# Altium footprint library arduino.PcbLib: 2 footprints
Each footprint in its own frame and in the unit in brackets; x right, y up, seen from the top. Pads: shape width x height; smd on the part's side, far side on the other; paste and mask are expansions set on the pad; w line width, h text height; cw(c..) or ccw(c..) is an arc to the next point about the centre after c.
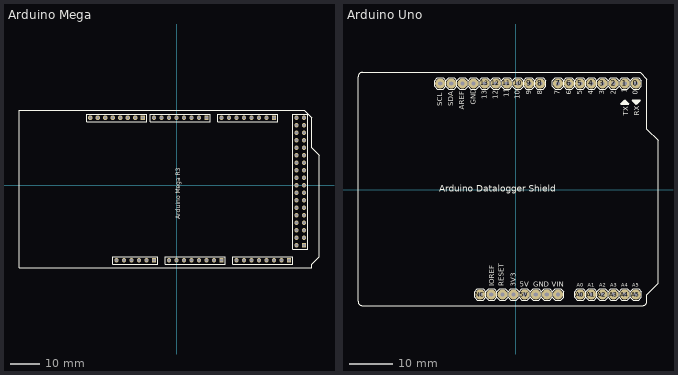
[diagram p0: the footprints below, top view; thin cyan lines are the x and y axes]

## Arduino Mega [mm] "Arduino Mega 2560"
pads (82):
  rect 1.5x1.5 hole 0.9: 0(10.16,22.86) 8(-11.43,22.86) 21(33.02,22.86) 59(-7.62,-25.4) 67(15.24,-25.4) 75(38.1,-25.4) 79(43.18,-20.32)
  round 1.5 hole 0.9: 1(7.62,22.86) 2(5.08,22.86) 3(2.54,22.86) 4(0,22.86) 5(-2.54,22.86) 6(-5.08,22.86) 7(-7.62,22.86) 9(-13.97,22.86) 10(-16.51,22.86) 11(-19.05,22.86) 12(-21.59,22.86) 13(-24.13,22.86) 14(15.24,22.86) 15(17.78,22.86) 16(20.32,22.86) 17(22.86,22.86) 18(25.4,22.86) 19(27.94,22.86) 20(30.48,22.86) 22(40.64,20.32) 23(43.18,20.32) 24(40.64,17.78) 25(43.18,17.78) 26(40.64,15.24) 27(43.18,15.24) 28(40.64,12.7) 29(43.18,12.7) 30(40.64,10.16) 31(43.18,10.16) 32(40.64,7.62) 33(43.18,7.62) 34(40.64,5.08) 35(43.18,5.08) 36(40.64,2.54) 37(43.18,2.54) 38(40.64,0) 39(43.18,0) 40(40.64,-2.54) 41(43.18,-2.54) 42(40.64,-5.08) 43(43.18,-5.08) 44(40.64,-7.62) 45(43.18,-7.62) 46(40.64,-10.16) 47(43.18,-10.16) 48(40.64,-12.7) 49(43.18,-12.7) 50(40.64,-15.24) 51(43.18,-15.24) 52(40.64,-17.78) 53(43.18,-17.78) 54(-20.32,-25.4) 55(-17.78,-25.4) 56(-15.24,-25.4) 57(-12.7,-25.4) 58(-10.16,-25.4) 60(-2.54,-25.4) 61(0,-25.4) 62(2.54,-25.4) 63(5.08,-25.4) 64(7.62,-25.4) 65(10.16,-25.4) 66(12.7,-25.4) 68(20.32,-25.4) 69(22.86,-25.4) 70(25.4,-25.4) 71(27.94,-25.4) 72(30.48,-25.4) 73(33.02,-25.4) 74(35.56,-25.4) 76(-26.67,22.86) 77(-29.21,22.86) 78(40.64,-20.32) 80(43.18,22.86) 81(40.64,22.86)
Top Overlay:
  lines w0.2: -30.48,21.59 -10.16,21.59 -10.16,24.13 -30.48,24.13 -30.48,21.59 ; -21.59,-26.67 -21.59,-24.13 -6.35,-24.13 -6.35,-26.67 -21.59,-26.67 ; -8.89,21.59 11.43,21.59 11.43,24.13 -8.89,24.13 -8.89,21.59 ; -3.81,-26.67 16.51,-26.67 16.51,-24.13 -3.81,-24.13 -3.81,-26.67 ; 13.97,21.59 13.97,24.13 34.29,24.13 34.29,21.59 13.97,21.59 ; 19.05,-26.67 39.37,-26.67 39.37,-24.13 19.05,-24.13 19.05,-26.67 ; 39.37,-21.59 44.45,-21.59 44.45,24.13 39.37,24.13 39.37,-21.59
  lines w0.254: 45.72,12.69 48.26,10.15 48.26,-24.13 45.72,-26.67 45.72,-27.94 -51.7,-27.94 -53.34,-27.94 -53.34,-26.3 -53.34,25.4 43.18,25.4 45.72,22.86 45.72,12.7
  text "Arduino Mega R3" at 1.27,-11.43 h1.52

## Arduino Uno [mm]
pads (32):
  round 2.3 hole 1: 0(27.44,24.26) 1(24.9,24.26) 2(22.36,24.26) 3(19.82,24.26) 3.3V(-0.5,-24) 4(17.28,24.26) 5(14.74,24.26) 5V(2.04,-24) 6(12.2,24.26) 7(9.66,24.26) 8(5.596,24.26) 9(3.056,24.26) 10(0.516,24.26) 11(-2.024,24.26) 12(-4.564,24.26) 13(-7.104,24.26) A0(14.74,-24) A1(17.28,-24) A2(19.82,-24) A3(22.36,-24) A4(24.9,-24) A5(27.44,-24) AREF(-12.184,24.26) GND1(7.12,-24) GND2(4.58,-24) GND3(-9.644,24.26) IOREF(-5.58,-24) NC(-8.12,-24) RST(-3.04,-24) SCL(-17.264,24.26) SDA(-14.724,24.26) Vin(9.66,-24)
Top Overlay:
  drawing of 255 lines, arcs and shapes, not listed
  text "5V" at 0.897,-22.222 h1.21
  text "A0" at 13.953,-22.197 h0.86
  text "AREF" at -11.814,18.203 h1.21
  text "GND" at -9.172,19.386 h1.21
  text "RESET" at -2.786,-22.095 h1.21
  text "3V3" at 0.008,-22.222 h1.21
  text "A1" at 16.493,-22.197 h0.86
  text "A2" at 19.033,-22.197 h0.86
  text "A3" at 21.573,-22.197 h0.86
  text "A4" at 24.113,-22.197 h0.86
  text "A5" at 26.653,-22.197 h0.86
  text "VIN" at 8.263,-22.222 h1.21
  text "GND" at 3.97,-22.222 h1.21
  text "IOREF" at -4.945,-22.095 h1.21
  text "TX" at 25.662,16.919 h1.21
  text "RX" at 28.202,16.894 h1.21
  text "13" at -6.657,20.669 h1.21
  text "12" at -4.117,20.669 h1.21
  text "11" at -1.577,21.072 h1.21
  text "10" at 0.963,20.669 h1.21
  text "9" at 3.503,21.676 h1.21
  text "8" at 6.043,21.676 h1.21
  text "7" at 10.107,21.676 h1.21
  text "6" at 12.647,21.676 h1.21
  text "5" at 15.187,21.676 h1.21
  text "4" at 17.727,21.676 h1.21
  text "3" at 20.267,21.676 h1.21
  text "2" at 22.807,21.676 h1.21
  text "1" at 25.347,22.079 h1.21
  text "0" at 27.887,21.676 h1.21
  text "SCL" at -16.8,19.1 h1.21
  text "SDA" at -14.271,19.087 h1.21
  text "Arduino Datalogger Shield" at -17.5,-0.5 h1.52